# Altium footprint library SIM5051601800A.PcbLib: 1 footprints
Each footprint in its own frame and in the unit in brackets; x right, y up, seen from the top. Pads: shape width x height; smd on the part's side, far side on the other; paste and mask are expansions set on the pad; w line width, h text height; cw(c..) or ccw(c..) is an arc to the next point about the centre after c.
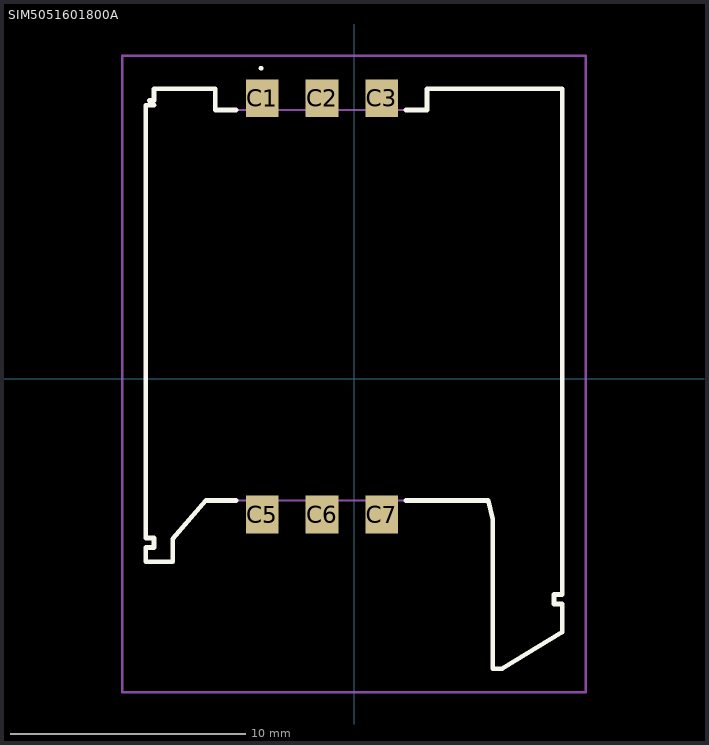
[diagram p0: the footprint, top view; thin cyan lines are the x and y axes]

## SIM5051601800A [mm]
pads (6):
  rect 1.4x1.6 smd: C1(-3.9,11.925) C2(-1.36,11.925) C3(1.18,11.925) C5(-3.9,-5.775) C6(-1.36,-5.775) C7(1.18,-5.775)
Top Overlay:
  lines w0.1: -4,13.2 -4,13.2 ; -4,13.2 ccw(c-3.95,13.2) -3.9,13.2 ; -4,13.2 cw(c-3.95,13.2) -3.9,13.2 ; -3.9,13.2 -3.9,13.2
  lines w0.2: -5,-5.175 -6.3,-5.175 -7.7,-6.8 -7.7,-7.775 -8.85,-7.775 -8.85,-7.175 -8.5,-7.175 -8.5,-6.775 -8.85,-6.775 -8.85,11.625 -8.5,11.625 -8.7,11.825 -8.5,11.825 -8.5,12.325 -5.9,12.325 -5.9,11.425 -5,11.425 ; 2.2,-5.175 5.7,-5.175 5.9,-5.975 5.9,-12.325 6.3,-12.325 8.85,-10.775 8.85,-9.575 8.5,-9.575 8.5,-9.175 8.85,-9.175 8.85,12.325 3.1,12.325 3.1,11.425 2.2,11.425
Mechanical 15:
  lines w0.1: -8.85,-7.775 -8.85,-7.175 -8.5,-7.175 -8.5,-6.775 -8.85,-6.775 -8.85,11.625 -8.5,11.625 -8.7,11.825 -8.5,11.825 -8.5,12.325 -5.9,12.325 -5.9,11.425 3.1,11.425 3.1,12.325 8.85,12.325 8.85,-9.175 8.5,-9.175 8.5,-9.575 8.85,-9.575 8.85,-10.775 6.3,-12.325 5.9,-12.325 5.9,-5.975 5.7,-5.175 -6.3,-5.175 -7.7,-6.775 -7.7,-7.775 -8.85,-7.775
Mechanical 20:
  lines w0.1: -9.85,-13.325 9.85,-13.325 9.85,13.725 -9.85,13.725 -9.85,-13.325